# Altium footprint library Connector_Samtec_HPM_THT.PcbLib: 38 footprints (part 3 of 3)
Each footprint in its own frame and in the unit in brackets; x right, y up, seen from the top. Pads: shape width x height; smd on the part's side, far side on the other; paste and mask are expansions set on the pad; w line width, h text height; cw(c..) or ccw(c..) is an arc to the next point about the centre after c.
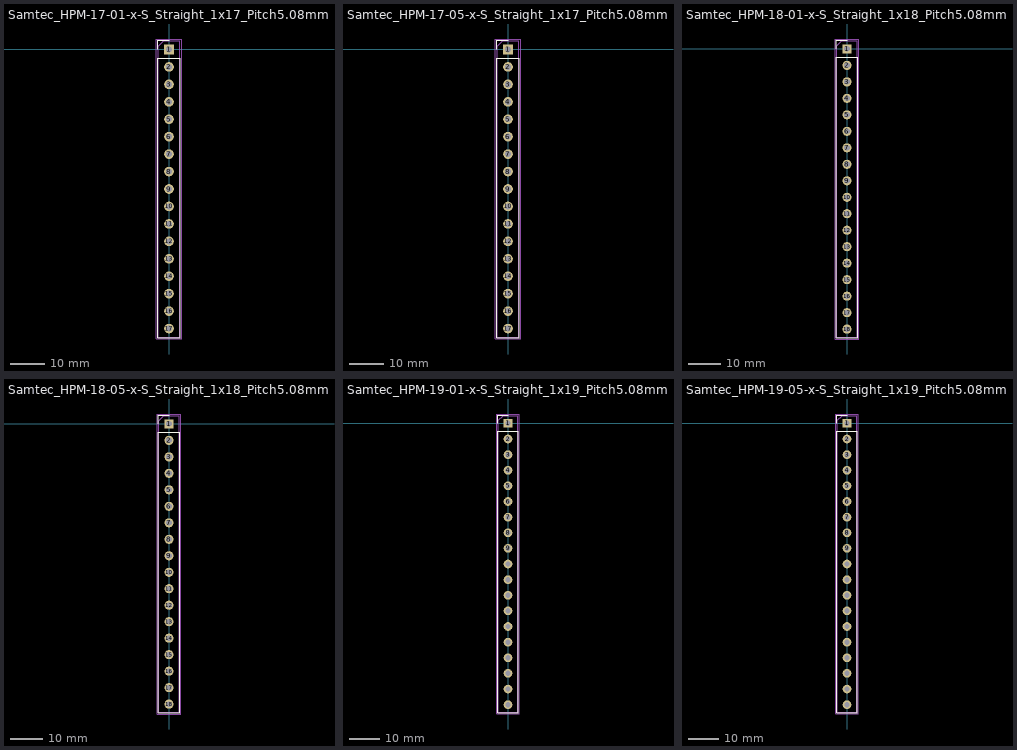
[diagram p2: the footprints below, top view; thin cyan lines are the x and y axes]

## Samtec_HPM-17-01-x-S_Straight_1x17_Pitch5.08mm [mm]
pads (17):
  rect 2.8x2.8 hole 1.75: 1(0,0)
  round 2.8 hole 1.75: 2(0,-5.08) 3(0,-10.16) 4(0,-15.24) 5(0,-20.32) 6(0,-25.4) 7(0,-30.48) 8(0,-35.56) 9(0,-40.64) 10(0,-45.72) 11(0,-50.8) 12(0,-55.88) 13(0,-60.96) 14(0,-66.04) 15(0,-71.12) 16(0,-76.2) 17(0,-81.28)
F.SilkS:
  lines w0.254: -3.285,0 -3.285,2.65 0,2.65 ; -3.285,-83.93 3.285,-83.93 3.285,-2.54 -3.285,-2.54 -3.285,-83.93
Top Assembly:
  lines w0.254: -3.175,-83.82 3.175,-83.82 3.175,2.54 -1.587,2.54 -3.175,0.953 -3.175,-83.82
  text "'.Designator'" at 0.84,-44.687 h1
Top Courtyard:
  lines w0.254: -3.68,-84.32 3.68,-84.32 3.68,3.05 -3.68,3.05 -3.68,-84.32
Top Designator:
  text ".Designator" at -7.618,-41.143 h1.52

## Samtec_HPM-17-05-x-S_Straight_1x17_Pitch5.08mm [mm]
pads (17):
  rect 2.8x2.8 hole 1.75: 1(0,0)
  round 2.8 hole 1.75: 2(0,-5.08) 3(0,-10.16) 4(0,-15.24) 5(0,-20.32) 6(0,-25.4) 7(0,-30.48) 8(0,-35.56) 9(0,-40.64) 10(0,-45.72) 11(0,-50.8) 12(0,-55.88) 13(0,-60.96) 14(0,-66.04) 15(0,-71.12) 16(0,-76.2) 17(0,-81.28)
F.SilkS:
  lines w0.254: -3.285,0 -3.285,2.65 0,2.65 ; -3.285,-83.93 3.285,-83.93 3.285,-2.54 -3.285,-2.54 -3.285,-83.93
Top Assembly:
  lines w0.254: -3.175,-83.82 3.175,-83.82 3.175,2.54 -1.587,2.54 -3.175,0.953 -3.175,-83.82
  text "'.Designator'" at 0.84,-44.687 h1
Top Courtyard:
  lines w0.254: -3.68,-84.32 3.68,-84.32 3.68,3.05 -3.68,3.05 -3.68,-84.32
Top Designator:
  text ".Designator" at -7.618,-41.143 h1.52

## Samtec_HPM-18-01-x-S_Straight_1x18_Pitch5.08mm [mm]
pads (18):
  rect 2.8x2.8 hole 1.75: 1(0,0)
  round 2.8 hole 1.75: 2(0,-5.08) 3(0,-10.16) 4(0,-15.24) 5(0,-20.32) 6(0,-25.4) 7(0,-30.48) 8(0,-35.56) 9(0,-40.64) 10(0,-45.72) 11(0,-50.8) 12(0,-55.88) 13(0,-60.96) 14(0,-66.04) 15(0,-71.12) 16(0,-76.2) 17(0,-81.28) 18(0,-86.36)
F.SilkS:
  lines w0.254: -3.285,0 -3.285,2.65 0,2.65 ; -3.285,-89.01 3.285,-89.01 3.285,-2.54 -3.285,-2.54 -3.285,-89.01
Top Assembly:
  lines w0.254: -3.175,-88.9 3.175,-88.9 3.175,2.54 -1.587,2.54 -3.175,0.953 -3.175,-88.9
  text "'.Designator'" at 0.84,-47.227 h1
Top Courtyard:
  lines w0.254: -3.68,-89.4 3.68,-89.4 3.68,3.05 -3.68,3.05 -3.68,-89.4
Top Designator:
  text ".Designator" at -7.618,-43.683 h1.52

## Samtec_HPM-18-05-x-S_Straight_1x18_Pitch5.08mm [mm]
pads (18):
  rect 2.8x2.8 hole 1.75: 1(0,0)
  round 2.8 hole 1.75: 2(0,-5.08) 3(0,-10.16) 4(0,-15.24) 5(0,-20.32) 6(0,-25.4) 7(0,-30.48) 8(0,-35.56) 9(0,-40.64) 10(0,-45.72) 11(0,-50.8) 12(0,-55.88) 13(0,-60.96) 14(0,-66.04) 15(0,-71.12) 16(0,-76.2) 17(0,-81.28) 18(0,-86.36)
F.SilkS:
  lines w0.254: -3.285,0 -3.285,2.65 0,2.65 ; -3.285,-89.01 3.285,-89.01 3.285,-2.54 -3.285,-2.54 -3.285,-89.01
Top Assembly:
  lines w0.254: -3.175,-88.9 3.175,-88.9 3.175,2.54 -1.587,2.54 -3.175,0.953 -3.175,-88.9
  text "'.Designator'" at 0.84,-47.227 h1
Top Courtyard:
  lines w0.254: -3.68,-89.4 3.68,-89.4 3.68,3.05 -3.68,3.05 -3.68,-89.4
Top Designator:
  text ".Designator" at -7.618,-43.683 h1.52

## Samtec_HPM-19-01-x-S_Straight_1x19_Pitch5.08mm [mm]
pads (19):
  rect 2.8x2.8 hole 1.75: 1(0,0)
  round 2.8 hole 1.75: 2(0,-5.08) 3(0,-10.16) 4(0,-15.24) 5(0,-20.32) 6(0,-25.4) 7(0,-30.48) 8(0,-35.56) 9(0,-40.64) 10(0,-45.72) 11(0,-50.8) 12(0,-55.88) 13(0,-60.96) 14(0,-66.04) 15(0,-71.12) 16(0,-76.2) 17(0,-81.28) 18(0,-86.36) 19(0,-91.44)
F.SilkS:
  lines w0.254: -3.285,0 -3.285,2.65 0,2.65 ; -3.285,-94.09 3.285,-94.09 3.285,-2.54 -3.285,-2.54 -3.285,-94.09
Top Assembly:
  lines w0.254: -3.175,-93.98 3.175,-93.98 3.175,2.54 -1.587,2.54 -3.175,0.953 -3.175,-93.98
  text "'.Designator'" at 0.84,-49.767 h1
Top Courtyard:
  lines w0.254: -3.68,-94.48 3.68,-94.48 3.68,3.05 -3.68,3.05 -3.68,-94.48
Top Designator:
  text ".Designator" at -7.618,-46.223 h1.52

## Samtec_HPM-19-05-x-S_Straight_1x19_Pitch5.08mm [mm]
pads (19):
  rect 2.8x2.8 hole 1.75: 1(0,0)
  round 2.8 hole 1.75: 2(0,-5.08) 3(0,-10.16) 4(0,-15.24) 5(0,-20.32) 6(0,-25.4) 7(0,-30.48) 8(0,-35.56) 9(0,-40.64) 10(0,-45.72) 11(0,-50.8) 12(0,-55.88) 13(0,-60.96) 14(0,-66.04) 15(0,-71.12) 16(0,-76.2) 17(0,-81.28) 18(0,-86.36) 19(0,-91.44)
F.SilkS:
  lines w0.254: -3.285,0 -3.285,2.65 0,2.65 ; -3.285,-94.09 3.285,-94.09 3.285,-2.54 -3.285,-2.54 -3.285,-94.09
Top Assembly:
  lines w0.254: -3.175,-93.98 3.175,-93.98 3.175,2.54 -1.587,2.54 -3.175,0.953 -3.175,-93.98
  text "'.Designator'" at 0.84,-49.767 h1
Top Courtyard:
  lines w0.254: -3.68,-94.48 3.68,-94.48 3.68,3.05 -3.68,3.05 -3.68,-94.48
Top Designator:
  text ".Designator" at -7.618,-46.223 h1.52